# EAGLE library part 6120XX21721_61201421721 (library 61201021621_Eagle_WR-BHD_rev19b)
WR-BHD 2.54 mm Male Angled Box Header KIND PROPERTIES: Pitch 2.54 mm Gender:Male MATERIAL PROPERTIES: Insulator Material:PBT Insulator Flammability Rating UL94 V-0 Insulator Color:Black Contact Material :Copper Alloy Contact Plating :Gold Contact Type: Stamped GENERAL INFORMATION: Operating Temperature:-40 °C up to +125 °C Compliance:RoHS Working Voltage: 250 V (AC) Withstanding Voltage:500 V (AC) Contact Resistance: 20 mΩ Insulation Resistance:1000 MΩ CERTIFICATION: UL Approval:E323964 PACKAGING PROPERTIES Packaging :Tray <https://katalog.we-online.com/media/images/v2/o32888v209%20Family_WR-BHD_6120xx21721.jpg> Details see: https://katalog.we-online.com/en/em/BHD_2_54_MALE_ANGLED_BOX_HEADER_6120XX21721 Updated by Yingchun,Shan 2019-10-29 2019 (C) Würth Elektronik
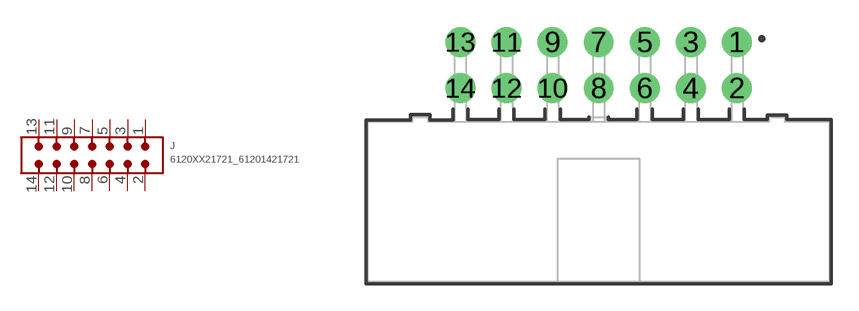
[diagram p42: symbol with the pads of 61201421721; footprint 61201421721]

Designator prefix J

## 6120XX21721_61201421721 (CONTACT-RESISTANCE: 20mOhm; DATASHEET-URL: https://katalog.we-online.com/em/datasheet/61201421721.pdf; GENDER: Male; IR: 3A; L: 27.98mm; MATES: WR-BHD 2.54mm Female IDC Connector with Strain Relief; MOUNT: THT; PACKAGING: Tray; PART-NUMBER: 61201421721; PINS: 14; PITCH: 2.54mm; TOL-R: max.; TYPE: Straight; WORKING-VOLTAGE: 250V(AC))  [61201421721]
1  1  pas
2  2  pas
3  3  pas
4  4  pas
5  5  pas
6  6  pas
7  7  pas
8  8  pas
9  9  pas
10  10  pas
11  11  pas
12  12  pas
13  13  pas
14  14  pas

## Footprint 61201421721 (pad centres in mm)
WR-BHD 2.54 mm Male Angled Box Header,14 Pins
drill 1.1: 1 7.62,8.805; 2 7.62,6.265; 3 5.08,8.805; 4 5.08,6.265; 5 2.54,8.805; 6 2.54,6.265; 7 0,8.805; 8 0,6.265; 9 -2.54,8.805; 10 -2.54,6.265; 11 -5.08,8.805; 12 -5.08,6.265; 13 -7.62,8.805; 14 -7.62,6.265